# Altium integrated library 2.54-1_4.IntLib: 1 symbol
Pins are listed as number, name and electrical type; pins without a type are passive.

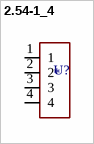
[diagram p0: symbol 2.54-1_4]

## 2.54-1_4
designator U?  (value not drawn)
Pin Headers. -40C~+105C 1 1x4P 2.54mm 2.54mm 2.5A 3mm 4P 6mm Brass Gold Pin Header Through Hole ,P=2.54mm Pin Headers ROHS; Manufacturer Part Number: 2.54-1*4; Manufacturer: ZHOURI; Component Type: Integrated Circuits; Design Item ID: 2.54-1_4; Value: *; JLCPCB Part #: C5116483
footprint 2.54-1_4 (HDR-TH_4P-P2.54-V-M-1)
pins: 1, 2, 3, 4